# EAGLE library part NOR_FLASH (library Bits_library_eagle)
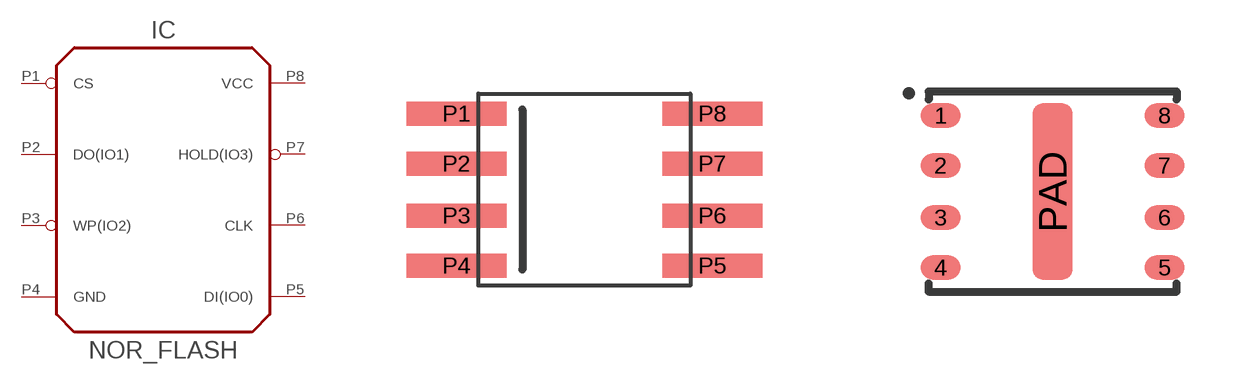
[diagram p12: symbol with the pads of SOIC-8EX; footprints SOIC-8EX, WSON-8_6X5]

Designator prefix IC

## NOR_FLASHSOIC-8  [SOIC-8EX]
P1  CS
P2  DO(IO1)
P3  WP(IO2)
P4  GND  pwr
P5  DI(IO0)
P6  CLK
P7  HOLD(IO3)
P8  VCC  pwr

## NOR_FLASHWSON8  [WSON-8_6X5]
1  CS
2  DO(IO1)
3  WP(IO2)
4  GND  pwr
5  DI(IO0)
6  CLK
7  HOLD(IO3)
8  VCC  pwr
PAD  GND  pwr

## Footprint SOIC-8EX (pad centres in mm)
smd 2.5 x 0.6: P1 -3.2,1.9; P2 -3.2,0.65; P3 -3.2,-0.65; P4 -3.2,-1.9; P5 3.2,-1.9; P6 3.2,-0.65; P7 3.2,0.65; P8 3.2,1.9

## Footprint WSON-8_6X5 (pad centres in mm)
smd 1 x 0.6: 1 -2.8,1.9; 2 -2.8,0.65; 3 -2.8,-0.65; 4 -2.8,-1.9; 5 2.8,-1.9; 6 2.8,-0.65; 7 2.8,0.65; 8 2.8,1.9
smd 1 x 4.4: PAD 0,0